# EAGLE library part 750314178 (library 750314178)
100mVAC, Ls tie(1+4, 6+7), 100kHz Source: Datasheet <https://www.we-online.com/components/products/datasheet/750314178.pdf>
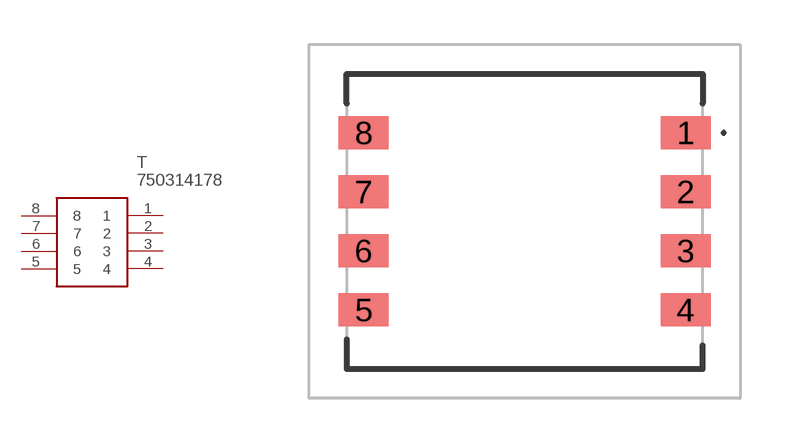
[diagram p0: symbol with the pads of 750314178; footprint 750314178]

Designator prefix T

## 750314178 (Description: 100mVAC, Ls tie(1+4, 6+7), 100kHz; Height: 5.97mm; Manufacturer_Name: Wurth Elektronik; Manufacturer_Part_Number: 750314178)  [750314178]
1  1
2  2
3  3
4  4
5  5
6  6
7  7
8  8

## Footprint 750314178 (pad centres in mm)
750314178-2
smd 1.7 x 1.12: 1 5.46,3; 2 5.46,1; 3 5.46,-1; 4 5.46,-3; 5 -5.46,-3; 6 -5.46,-1; 7 -5.46,1; 8 -5.46,3